# Altium footprint library AMPHENOL_SFV30R-1STE1HLF.PcbLib: 1 footprints
Each footprint in its own frame and in the unit in brackets; x right, y up, seen from the top. Pads: shape width x height; smd on the part's side, far side on the other; paste and mask are expansions set on the pad; w line width, h text height; cw(c..) or ccw(c..) is an arc to the next point about the centre after c.
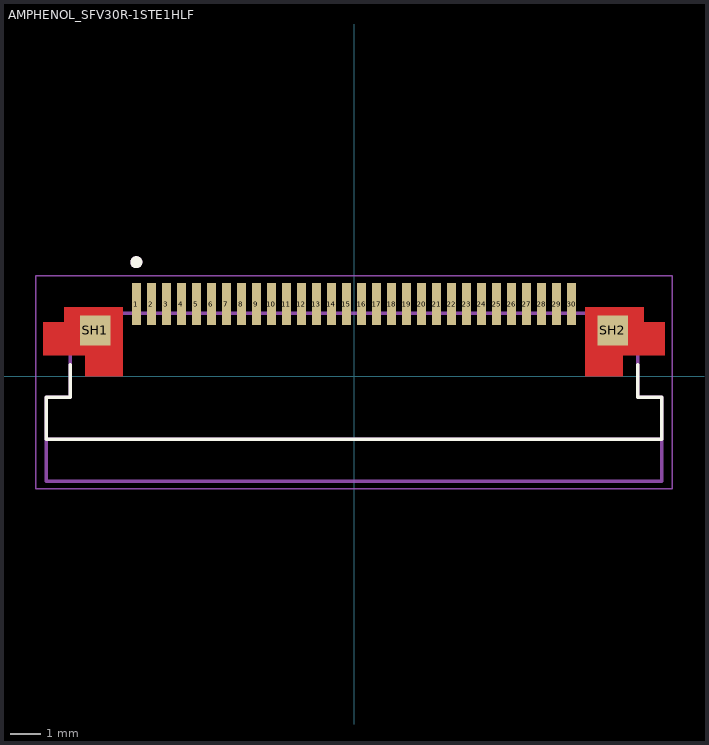
[diagram p0: the footprint, top view; thin cyan lines are the x and y axes]

## AMPHENOL_SFV30R-1STE1HLF [mm]
height 2
pads (32):
  rect 0.3x1.4 smd: 1(-7.25,2.4) 2(-6.75,2.4) 3(-6.25,2.4) 4(-5.75,2.4) 5(-5.25,2.4) 6(-4.75,2.4) 7(-4.25,2.4) 8(-3.75,2.4) 9(-3.25,2.4) 10(-2.75,2.4) 11(-2.25,2.4) 12(-1.75,2.4) 13(-1.25,2.4) 14(-0.75,2.4) 15(-0.25,2.4) 16(0.25,2.4) 17(0.75,2.4) 18(1.25,2.4) 19(1.75,2.4) 20(2.25,2.4) 21(2.75,2.4) 22(3.25,2.4) 23(3.75,2.4) 24(4.25,2.4) 25(4.75,2.4) 26(5.25,2.4) 27(5.75,2.4) 28(6.25,2.4) 29(6.75,2.4) 30(7.25,2.4)
  rect 1x1 smd paste-1 mask+0: SH1(-8.62,1.53) SH2(8.62,1.53)
Top Layer:
  region: -7.7,0 -8.95,0 -8.95,0.7 -10.35,0.7 -10.35,1.8 -9.65,1.8 -9.65,2.3 -7.7,2.3
  region: 9.65,1.8 10.35,1.8 10.35,0.7 8.95,0.7 8.95,0 7.7,0 7.7,2.3 9.65,2.3
Top Overlay:
  circle w0.2: c-7.25,3.8 r0.1
  lines w0.127: -9.45,0.38 -9.45,-0.7 -10.25,-0.7 -10.25,-2.1 10.25,-2.1 10.25,-0.7 9.45,-0.7 9.45,0.38
Top Paste:
  region: -7.7,0 -8.95,0 -8.95,0.7 -10.35,0.7 -10.35,1.8 -9.65,1.8 -9.65,2.3 -7.7,2.3
  region: 9.65,1.8 10.35,1.8 10.35,0.7 8.95,0.7 8.95,0 7.7,0 7.7,2.3 9.65,2.3
Top Solder:
  region: -7.6,-0.1 -9.05,-0.1 -9.05,0.6 -10.45,0.6 -10.45,1.9 -9.75,1.9 -9.75,2.4 -7.6,2.4
  region: 9.75,1.9 10.45,1.9 10.45,0.6 9.05,0.6 9.05,-0.1 7.6,-0.1 7.6,2.4 9.75,2.4
Mechanical 13:
  circle w0.2: c-7.25,3.8 r0.1
  lines w0.127: -10.25,-2.1 -10.25,-3.5 10.25,-3.5 10.25,-2.1 ; -10.25,-2.1 -10.25,-0.7 -9.45,-0.7 -9.45,2.1 9.45,2.1 9.45,-0.7 10.25,-0.7 10.25,-2.1 ; -10.25,-2.1 10.25,-2.1
Mechanical 15:
  lines w0.05: -10.6,-3.75 10.6,-3.75 10.6,3.35 -10.6,3.35 -10.6,-3.75
3D body "step_temp.STEP": height 1.87, standoff 0, extent -10.25,-2.1 10.25,2.8